# Altium footprint library Misc.PcbLib: 53 footprints (part 3 of 4)
Each footprint in its own frame and in the unit in brackets; x right, y up, seen from the top. Pads: shape width x height; smd on the part's side, far side on the other; paste and mask are expansions set on the pad; w line width, h text height; cw(c..) or ccw(c..) is an arc to the next point about the centre after c.
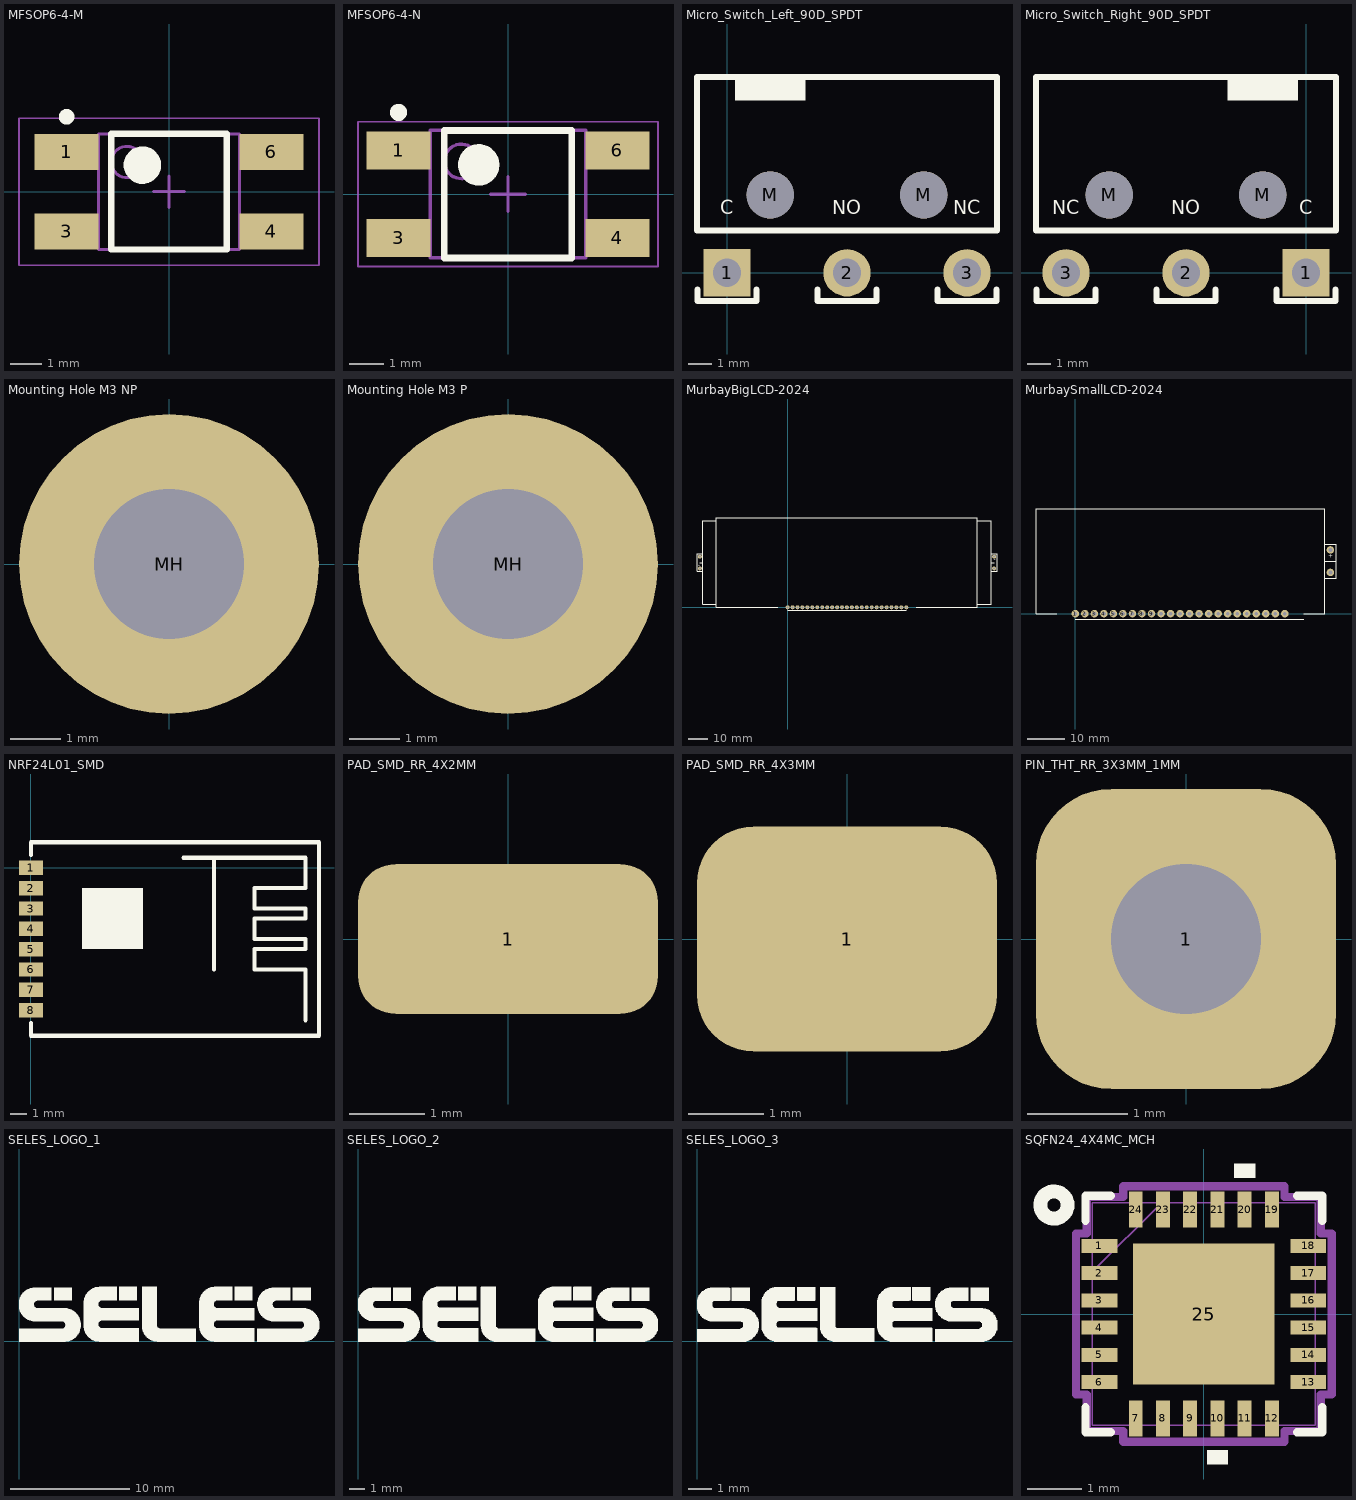
[diagram p2: the footprints below, top view; thin cyan lines are the x and y axes]

## MFSOP6-4-M [mm] "SOP, 4-Leads, Body 3,60x4,40mm, Pitch 2,54mm, IPC Low Density"
height 2.65
pads (4):
  rect 2.05x1.15 smd: 1(-3.275,1.27) 3(-3.275,-1.27) 4(3.275,-1.27) 6(3.275,1.27)
Top Overlay:
  circle w0.25: c-3.275,2.395 r0.125
  circle w0.6: c-0.85,0.85 r0.3
  lines w0.2: -1.85,-1.85 -1.85,1.85 1.85,1.85 1.85,-1.85 -1.85,-1.85
Mechanical 13:
  circle w0.1: c-1.35,0.95 r0.5
  lines w0.1: -2.25,-1.85 -2.25,1.85 2.25,1.85 2.25,-1.85 -2.25,-1.85
Mechanical 15:
  lines w0.05: -4.8,-2.35 -4.8,2.35 4.8,2.35 4.8,-2.35 -4.8,-2.35
  lines w0.1: -0.5,0 0.5,0 ; 0,-0.5 0,0.5
3D body "MFSOP6-4-M.step": height 2.65, standoff 0, extent -3.625,-1.85 3.625,1.85

## MFSOP6-4-N [mm] "SOP, 4-Leads, Body 3,60x4,40mm, Pitch 2,54mm, IPC Medium Density"
height 2.65
pads (4):
  rect 1.85x1.1 smd: 1(-3.175,1.27) 3(-3.175,-1.27) 4(3.175,-1.27) 6(3.175,1.27)
Top Overlay:
  circle w0.25: c-3.175,2.37 r0.125
  circle w0.6: c-0.85,0.85 r0.3
  lines w0.2: -1.85,-1.85 -1.85,1.85 1.85,1.85 1.85,-1.85 -1.85,-1.85
Mechanical 13:
  circle w0.1: c-1.35,0.95 r0.5
  lines w0.1: -2.25,-1.85 -2.25,1.85 2.25,1.85 2.25,-1.85 -2.25,-1.85
Mechanical 15:
  lines w0.05: -4.35,-2.1 -4.35,2.1 4.35,2.1 4.35,-2.1 -4.35,-2.1
  lines w0.1: -0.5,0 0.5,0 ; 0,-0.5 0,0.5
3D body "MFSOP6-4-N.step": height 2.65, standoff 0, extent -3.625,-1.85 3.625,1.85

## Micro_Switch_Left_90D_SPDT [mm]
height 5.8
pads (5):
  rect 2x2 hole 1.2: 1(0,0)
  round 2 hole 1.2: 2(5.08,0) 3(10.16,0)
  round 2 hole 2 unplated: M(1.83,3.3) M(8.33,3.3)
Top Overlay:
  rectangle: 0.33,7.3 3.33,8.3
  lines w0.254: -1.25,-0.7 -1.25,-1.2 1.25,-1.2 1.25,-0.7 ; 3.83,-0.7 3.83,-1.2 6.33,-1.2 6.33,-0.7 ; 8.91,-0.7 8.91,-1.2 11.41,-1.2 11.41,-0.7 ; -1.27,1.8 -1.27,8.3 11.43,8.3 11.43,1.8 -1.27,1.8
  text "C" at -0.278,2.3 h1
  text "NO" at 4.461,2.3 h1
  text "NC" at 9.571,2.3 h1
3D body "d2f.stp": height 5.9, standoff 0.1, extent -1.32,-1.778 11.48,8.717

## Micro_Switch_Right_90D_SPDT [mm]
height 5.8
pads (5):
  rect 2x2 hole 1.2: 1(0,0)
  round 2 hole 1.2: 2(-5.08,0) 3(-10.16,0)
  round 2 hole 2 unplated: M(-8.33,3.3) M(-1.83,3.3)
Top Overlay:
  rectangle: -3.33,7.3 -0.33,8.3
  lines w0.254: -11.41,-0.7 -11.41,-1.2 -8.91,-1.2 -8.91,-0.7 ; -6.33,-0.7 -6.33,-1.2 -3.83,-1.2 -3.83,-0.7 ; -1.25,-0.7 -1.25,-1.2 1.25,-1.2 1.25,-0.7 ; -11.43,1.8 -11.43,8.3 1.27,8.3 1.27,1.8 -11.43,1.8
  text "C" at -0.278,2.3 h1
  text "NO" at -5.699,2.3 h1
  text "NC" at -10.749,2.3 h1
3D body "d2f.stp": height -0.5, standoff -6.3, extent -11.48,-1.778 1.32,8.717

## Mounting Hole M3 NP [mm]
pads (1):
  round 6 hole 3 unplated: MH(0,0)

## Mounting Hole M3 P [mm]
pads (1):
  round 6 hole 3: MH(0,0)

## MurbayBigLCD-2024 [mm]
pads (29):
  round 2 hole 1: 1(0,0) 2(2.54,0) 3(5.08,0) 4(7.62,0) 5(10.16,0) 6(12.7,0) 7(15.24,0) 8(17.78,0) 9(20.32,0) 10(22.86,0) 11(25.4,0) 12(27.94,0) 13(30.48,0) 14(33.02,0) 15(35.56,0) 16(38.1,0) 17(40.64,0) 18(43.18,0) 19(45.72,0) 20(48.26,0) 21(50.8,0) 22(53.34,0) 23(55.88,0) 24(58.42,0) 25(60.96,0) 26(106,26) 27(106,20) 28(-45,20) 29(-45,26)
Top Overlay:
  lines w0.15: -45,23 -43.5,23 ; -43.5,18.5 -46.5,18.5 -46.5,27.5 -43.5,27.5 ; -5,0 -36.52,0 -36.52,46 97.48,46 97.48,0 65.96,0 ; 0,-1.5 61,-1.5 ; 104.5,18.5 107.5,18.5 107.5,27.5 104.5,27.5 ; 104.5,23 106,23 ; -43.5,1.5 -36.5,1.5 -36.5,44.5 -43.5,44.5 -43.5,1.5 ; 97.46,1.5 97.46,44.5 104.46,44.5 104.46,1.5 97.46,1.5
  text "+" at -44.776,22 h1
  text "+" at 105.776,24 h1
3D body: height 2.5, standoff 0, extent -43,2 104,44
3D body: height 5.5, standoff 2.5, extent -36,0.5 97,45.5
3D body: height 5.5, standoff 0, extent -1,-1 62,0.5

## MurbaySmallLCD-2024 [mm]
pads (25):
  round 2 hole 1: 1(0,0) 2(2.54,0) 3(5.08,0) 4(7.62,0) 5(10.16,0) 6(12.7,0) 7(15.24,0) 8(17.78,0) 9(20.32,0) 10(22.86,0) 11(25.4,0) 12(27.94,0) 13(30.48,0) 14(33.02,0) 15(35.56,0) 16(38.1,0) 17(40.64,0) 18(43.18,0) 19(45.72,0) 20(48.26,0) 21(50.8,0) 22(53.34,0) 23(55.88,0) 24(68.04,17) 25(68.04,11)
Top Overlay:
  lines w0.15: -5,0 -10.5,0 -10.5,28 66.5,28 66.5,0 61,0 ; 0,-1.5 61,-1.5 ; 66.54,9.5 69.54,9.5 69.54,18.5 66.54,18.5 ; 66.54,14 69.5,14
  text "+" at 67.5,14.5 h2
3D body: height 4.2, standoff 0, extent -1,-1 57.15,0.5
3D body: height 4.2, standoff 2, extent -9.1,0.5 59.9,27.5
3D body: height 2, standoff 0, extent -10,1.5 66,26.5

## NRF24L01_SMD [mm]
height 3
pads (8):
  rect 1.5x0.9 smd: 1(0,0) 2(0,-1.27) 3(0,-2.54) 4(0,-3.81) 5(0,-5.08) 6(0,-6.35) 7(0,-7.62) 8(0,-8.89)
Top Overlay:
  rectangle: 3.175,-5.08 6.985,-1.27
  lines w0.254: 0,-9.69 0,-10.49 18,-10.49 18,1.6 0,1.6 0,0.8 ; 9.525,0.635 17.145,0.635 17.145,-1.27 13.97,-1.27 13.97,-2.54 17.145,-2.54 17.145,-3.175 13.97,-3.175 13.97,-4.445 17.145,-4.445 17.145,-5.08 13.97,-5.08 13.97,-6.35 17.145,-6.35 17.145,-9.525 ; 11.43,-6.35 11.43,0.635
3D body "nRF24L01-Mini.step": height 0.8, standoff 0, extent -0.025,-10.42 17.975,1.58

## PAD_SMD_RR_4X2MM [mm]
pads (1):
  rrect50% 4x2 smd: 1(0,0)

## PAD_SMD_RR_4X3MM [mm]
pads (1):
  rrect50% 4x3 smd: 1(0,0)

## PIN_THT_RR_3X3MM_1MM [mm]
pads (1):
  rrect50% 3x3 hole 1.5: 1(0,0)

## SELES_LOGO_1 [mm]
Top Overlay:
  drawing of 1064 lines, arcs and shapes, not listed

## SELES_LOGO_2 [mm]
Top Overlay:
  drawing of 830 lines, arcs and shapes, not listed

## SELES_LOGO_3 [mm]
Top Overlay:
  drawing of 545 lines, arcs and shapes, not listed

## SQFN24_4X4MC_MCH [mm]
pads (25):
  rect 0.657x0.255 smd paste+0 mask+0: 1(-1.916,1.25) 2(-1.916,0.75) 3(-1.916,0.25) 4(-1.916,-0.25) 5(-1.916,-0.75) 6(-1.916,-1.25) 13(1.916,-1.25) 14(1.916,-0.75) 15(1.916,-0.25) 16(1.916,0.25) 17(1.916,0.75) 18(1.916,1.25)
  rect 0.255x0.657 smd paste+0 mask+0: 7(-1.25,-1.916) 8(-0.75,-1.916) 9(-0.25,-1.916) 10(0.25,-1.916) 11(0.75,-1.916) 12(1.25,-1.916) 19(1.25,1.916) 20(0.75,1.916) 21(0.25,1.916) 22(-0.25,1.916) 23(-0.75,1.916) 24(-1.25,1.916)
  rect 2.591x2.591 smd paste-1.283 mask+0: 25(0,0)
Top Overlay:
  circle w0.254: c-2.75,2 r0.25
  region: 0.44,-2.499 0.059,-2.499 0.059,-2.753 0.44,-2.753
  region: 0.941,2.499 0.56,2.499 0.56,2.753 0.941,2.753
  lines w0.152: -2.172,-1.71 -2.172,-2.172 -1.71,-2.172 ; -2.172,1.71 -2.172,2.172 -1.71,2.172 ; 1.71,-2.172 2.172,-2.172 2.172,-1.71 ; 1.71,2.172 2.172,2.172 2.172,1.71
Top Paste:
  region: -0.1,1.195 -1.195,1.195 -1.195,0.1 -0.1,0.1
  region: -0.1,-0.1 -1.195,-0.1 -1.195,-1.195 -0.1,-1.195
  region: 1.195,1.195 0.1,1.195 0.1,0.1 1.195,0.1
  region: 1.195,-0.1 0.1,-0.1 0.1,-1.195 1.195,-1.195
Mechanical 13:
  lines w0.025: -2.045,0.775 -0.775,2.045 ; -2.045,-2.045 2.045,-2.045 2.045,2.045 -2.045,2.045 -2.045,-2.045 ; -2.045,-1.402 -2.045,-1.098 -2.045,-1.402 ; -2.045,-0.902 -2.045,-0.598 -2.045,-0.902 ; -2.045,-0.402 -2.045,-0.098 -2.045,-0.402 ; -2.045,0.098 -2.045,0.402 -2.045,0.098 ; -2.045,0.598 -2.045,0.902 -2.045,0.598 ; -2.045,1.098 -2.045,1.402 -2.045,1.098 ; -1.402,-2.045 -1.098,-2.045 -1.402,-2.045 ; -1.402,2.045 -1.098,2.045 -1.402,2.045 ; -0.902,-2.045 -0.598,-2.045 -0.902,-2.045 ; -0.902,2.045 -0.598,2.045 -0.902,2.045 ; -0.402,-2.045 -0.098,-2.045 -0.402,-2.045 ; -0.402,2.045 -0.098,2.045 -0.402,2.045 ; 0.098,-2.045 0.402,-2.045 0.098,-2.045 ; 0.098,2.045 0.402,2.045 0.098,2.045 ; 0.598,-2.045 0.902,-2.045 0.598,-2.045 ; 0.598,2.045 0.902,2.045 0.598,2.045 ; 1.098,-2.045 1.402,-2.045 1.098,-2.045 ; 1.098,2.045 1.402,2.045 1.098,2.045 ; 2.045,-1.402 2.045,-1.098 2.045,-1.402 ; 2.045,-0.902 2.045,-0.598 2.045,-0.902 ; 2.045,-0.402 2.045,-0.098 2.045,-0.402 ; 2.045,0.098 2.045,0.402 2.045,0.098 ; 2.045,0.598 2.045,0.902 2.045,0.598 ; 2.045,1.098 2.045,1.402 2.045,1.098
  text "*" at -1.905,0.865 h1.27
Mechanical 15:
  lines w0.152: -2.346,-1.479 -2.146,-1.479 -2.146,-2.146 -1.479,-2.146 -1.479,-2.346 1.479,-2.346 1.479,-2.146 2.146,-2.146 2.146,-1.479 2.346,-1.479 2.346,1.479 2.146,1.479 2.146,2.146 1.479,2.146 1.479,2.346 -1.479,2.346 -1.479,2.146 -2.146,2.146 -2.146,1.479 -2.346,1.479 -2.346,-1.479
3D body "SQFN24_4X4MC_MCH.step": height 1.65, standoff 0, extent -2.045,-2.045 2.045,2.045
3D body: height 0.25, standoff 0, extent 0,0 0.254,0.254